# Altium footprint library VR Interface PCBLib.PcbLib: 7 footprints
Each footprint in its own frame and in the unit in brackets; x right, y up, seen from the top. Pads: shape width x height; smd on the part's side, far side on the other; paste and mask are expansions set on the pad; w line width, h text height; cw(c..) or ccw(c..) is an arc to the next point about the centre after c.
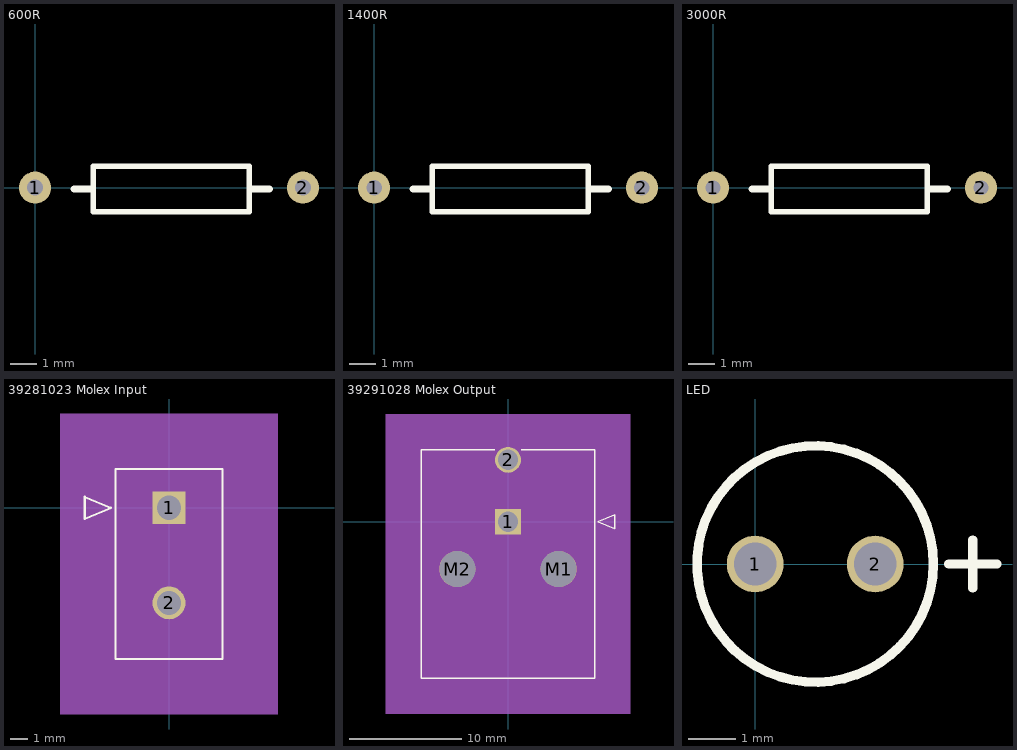
[diagram p0: the footprints below, top view; thin cyan lines are the x and y axes]

## 600R [mm]
pads (2):
  round 1.2 hole 0.6: 1(0,0) 2(10,0)
Top Overlay:
  lines w0.2: 2.175,-0.9 8,-0.9 8,0.8 2.175,0.8 2.175,-0.9
  lines w0.254: 1.45,-0.05 2.1,-0.05 ; 8.1,-0.05 8.75,-0.05
3D body "User Library-R-Axial-0_25W-10_16.step": height 3.2, standoff -3, extent -0.38,-1.207 10.38,1.2

## 1400R [mm]
pads (2):
  round 1.2 hole 0.58: 1(0,0) 2(10,0)
Top Overlay:
  lines w0.2: 2.175,-0.9 8,-0.9 8,0.8 2.175,0.8 2.175,-0.9
  lines w0.254: 1.45,-0.05 2.1,-0.05 ; 8.1,-0.05 8.75,-0.05
3D body "User Library-R-Axial-0_25W-10_16.step": height 3.2, standoff -3, extent -0.38,-1.207 10.38,1.2

## 3000R [mm]
pads (2):
  round 1.2 hole 0.55: 1(0,0) 2(10,0)
Top Overlay:
  lines w0.2: 2.175,-0.9 2.175,0.8 8,0.8 8,-0.9 2.175,-0.9
  lines w0.254: 1.45,-0.05 2.1,-0.05 ; 8.1,-0.05 8.75,-0.05
3D body "User Library-R-Axial-0_25W-10_16.step": height 3.2, standoff -3, extent -0.38,-1.2 10.38,1.207

## 39281023 Molex Input [mm]
pads (2):
  rect 1.9x1.9 hole 1.4 mask+0.076: 1(0,0)
  round 1.9 hole 1.4 mask+0.076: 2(0,-5.5)
Top Overlay:
  lines w0.127: -4.878,-0.635 -4.878,0.635 -3.354,0 -4.878,-0.635 ; -3.1,-8.75 -3.1,2.25 3.1,2.25 3.1,-8.75 -3.1,-8.75
Mechanical 5:
  region: -6.275,5.425 6.275,5.425 6.275,-11.925 -6.275,-11.925
Mechanical 13:
  lines w0.127: -4.878,-0.635 -4.878,0.635 -3.354,0 -4.878,-0.635 ; -3.1,-8.75 3.1,-8.75 3.1,2.25 -3.1,2.25 -3.1,-8.75
Mechanical 15:
  region: 4.37,3.52 -4.37,3.52 -4.37,-10.02 4.37,-10.02
  lines w0.127: -4.37,-10.02 -4.37,3.52 4.37,3.52 4.37,-10.02 -4.37,-10.02
3D body "039281023.stp": height 12.81, standoff -3.49, extent -3.097,-8.74 3.1,2.26
3D body: height 0.25, standoff 0, extent 0,0 0.254,0.254

## 39291028 Molex Output [mm]
pads (4):
  rect 2.3x2.3 hole 1.8 mask+0.076: 1(0,0)
  round 2.3 hole 1.8 mask+0.076: 2(0,5.5)
  round 3.2 hole 3.2 unplated mask+0.076: M1(4.5,-4.2) M2(-4.5,-4.2)
Top Overlay:
  lines w0.127: -1.162,6.4 -7.7,6.4 -7.7,-13.9 7.7,-13.9 7.7,6.4 1.162,6.4 ; 7.954,0 9.478,-0.635 9.478,0.635 7.954,0
Mechanical 5:
  region: -10.875,9.575 10.875,9.575 10.875,-17.075 -10.875,-17.075
Mechanical 13:
  lines w0.127: -7.7,-13.9 -7.7,6.4 7.7,6.4 7.7,-13.9 -7.7,-13.9 ; 7.954,0 9.478,-0.635 9.478,0.635 7.954,0
Mechanical 15:
  region: 8.97,7.67 -8.97,7.67 -8.97,-15.17 8.97,-15.17
  lines w0.127: -8.97,-15.17 8.97,-15.17 8.97,7.67 -8.97,7.67 -8.97,-15.17
3D body: height 0.25, standoff 0, extent 0,0 0.254,0.254
3D body "039291028.stp": height 11.41, standoff -3.49, extent -7.7,-13.718 7.7,6.217

## LED [mm]
pads (2):
  round 1.2 hole 0.9: 1(0,0) 2(2.54,0)
Top Overlay:
  circle w0.2: c1.27,0 r2.5
  lines w0.2: 4.1,0 5.116,0 ; 4.6,-0.508 4.6,0.508
3D body "CircuitWorks-GREENLED.step": height 5.02, standoff -3.54, extent -0.693,-1.993 3.293,1.5

## PCBComponent_1 [mm]